# Altium footprint library QFN-6_custom.PcbLib: 1 footprints
Each footprint in its own frame and in the unit in brackets; x right, y up, seen from the top. Pads: shape width x height; smd on the part's side, far side on the other; paste and mask are expansions set on the pad; w line width, h text height; cw(c..) or ccw(c..) is an arc to the next point about the centre after c.
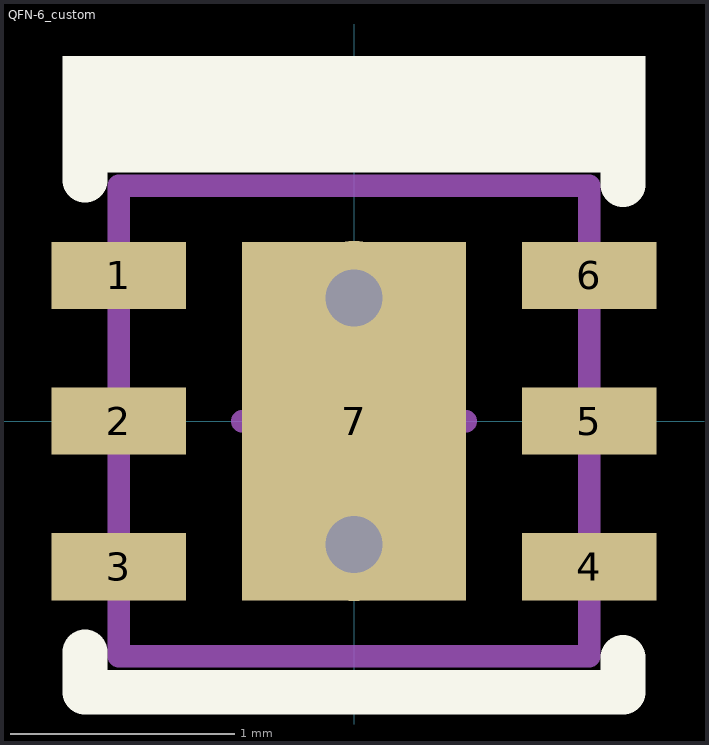
[diagram p0: the footprint, top view; thin cyan lines are the x and y axes]

## QFN-6_custom [mm] "QFN, 6-Leads, Body 2,1x2,1mm (max), Pitch 0,65mm, IPC Low Density"
height 0.8
pads (7):
  rect 0.6x0.3 smd: 1(-1.05,0.65) 2(-1.05,0) 3(-1.05,-0.65) 4(1.05,-0.65) 5(1.05,0) 6(1.05,0.65)
  rect 1x1.6 smd: 7(0,0)
via 0,0.55 diameter 0.508 hole 0.254
via 0,-0.55 diameter 0.508 hole 0.254
Top Overlay:
  rectangle: -1.3,1.21 1.3,1.63
  lines w0.2: -1.2,-1.03 -1.2,-1.21 1.2,-1.21 ; -1.2,1.075 -1.2,1.21 1.19,1.21 ; 1.2,-1.19 1.2,-1.055 ; 1.2,1.055 1.2,1.2
Mechanical 13:
  lines w0.1: -1.05,-1.05 1.05,-1.05 1.05,1.05 -1.05,1.05 -1.05,-1.05
Mechanical 15:
  lines w0.1: -0.5,0 0.5,0 ; 0,-0.5 0,0.5
3D body "User Library-wson6-drv.step": height 0.8, standoff 0, extent -1.01,-1 1.01,1